# EAGLE library part ESP32 (library my_devices)
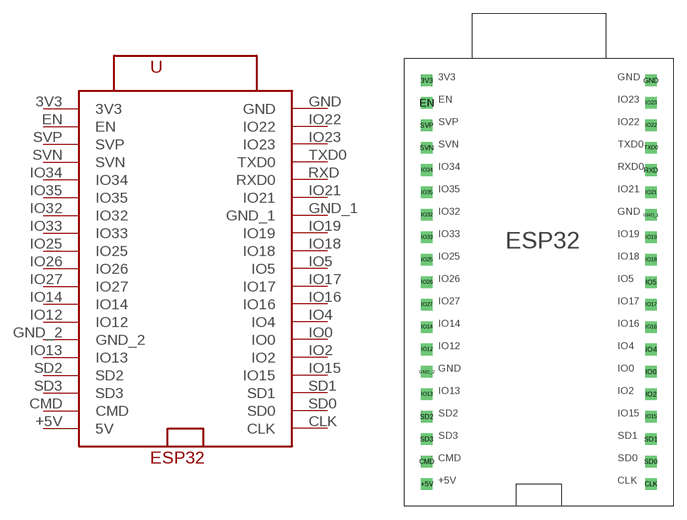
[diagram p2: symbol with the pads of ESP32; footprint ESP32]

Designator prefix U

## ESP32  [ESP32]
3V3  3V3  pwr
+5V  5V  sup
CLK  CLK
CMD  CMD
EN  EN
GND  GND  sup
GND_1  GND_1
GND_2  GND_2
IO0  IO0
IO2  IO2
IO4  IO4
IO5  IO5
IO12  IO12
IO13  IO13
IO14  IO14
IO15  IO15
IO16  IO16
IO17  IO17
IO18  IO18
IO19  IO19
IO21  IO21
IO22  IO22
IO23  IO23
IO25  IO25
IO26  IO26
IO27  IO27
IO32  IO32
IO33  IO33
IO34  IO34
IO35  IO35
RXD  RXD0
SD0  SD0
SD1  SD1
SD2  SD2
SD3  SD3
SVN  SVN
SVP  SVP
TXD0  TXD0

## Footprint ESP32 (pad centres in mm)
drill 0.8 square: 3V3 -12.7,22.86; +5V -12.7,-22.86; CLK 12.7,-22.86; CMD -12.7,-20.32; EN -12.7,20.32; GND 12.7,22.86; GND_1 12.7,7.62; GND_2 -12.7,-10.16; IO0 12.7,-10.16; IO2 12.7,-12.7; IO4 12.7,-7.62; IO5 12.7,0; IO12 -12.7,-7.62; IO13 -12.7,-12.7; IO14 -12.7,-5.08; IO15 12.7,-15.24; IO16 12.7,-5.08; IO17 12.7,-2.54; IO18 12.7,2.54; IO19 12.7,5.08; IO21 12.7,10.16; IO22 12.7,17.78; IO23 12.7,20.32; IO25 -12.7,2.54; IO26 -12.7,0; IO27 -12.7,-2.54; IO32 -12.7,7.62; IO33 -12.7,5.08; IO34 -12.7,12.7; IO35 -12.7,10.16; RXD 12.7,12.7; SD0 12.7,-20.32; SD1 12.7,-17.78; SD2 -12.7,-15.24; SD3 -12.7,-17.78; SVN -12.7,15.24; SVP -12.7,17.78; TXD0 12.7,15.24